# Altium footprint library SN74HC245PW.PcbLib: 1 footprints
Each footprint in its own frame and in the unit in brackets; x right, y up, seen from the top. Pads: shape width x height; smd on the part's side, far side on the other; paste and mask are expansions set on the pad; w line width, h text height; cw(c..) or ccw(c..) is an arc to the next point about the centre after c.
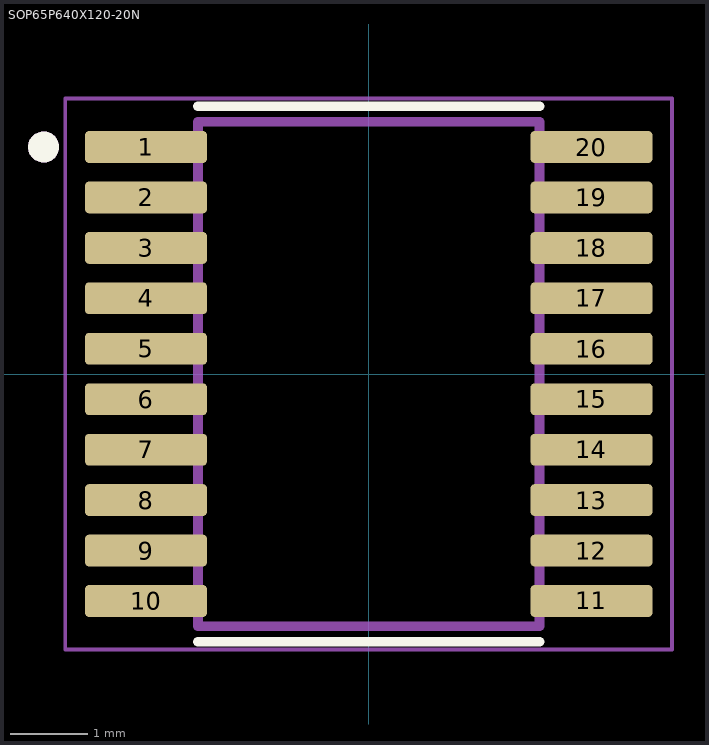
[diagram p0: the footprint, top view; thin cyan lines are the x and y axes]

## SOP65P640X120-20N [mm]
pads (20):
  rrect25% 1.57x0.41 smd: 1(-2.87,2.925) 2(-2.87,2.275) 3(-2.87,1.625) 4(-2.87,0.975) 5(-2.87,0.325) 6(-2.87,-0.325) 7(-2.87,-0.975) 8(-2.87,-1.625) 9(-2.87,-2.275) 10(-2.87,-2.925) 11(2.87,-2.925) 12(2.87,-2.275) 13(2.87,-1.625) 14(2.87,-0.975) 15(2.87,-0.325) 16(2.87,0.325) 17(2.87,0.975) 18(2.87,1.625) 19(2.87,2.275) 20(2.87,2.925)
Top Overlay:
  circle w0.2: c-4.19,2.925 r0.1
  lines w0.127: -2.2,-3.45 2.2,-3.45 ; -2.2,3.45 2.2,3.45
Mechanical 13:
  circle w0.2: c-4.19,2.925 r0.1
  lines w0.127: -2.2,-3.25 -2.2,3.25 2.2,3.25 2.2,-3.25 -2.2,-3.25
Mechanical 15:
  lines w0.05: -3.91,-3.55 -3.91,3.55 3.91,3.55 3.91,-3.55 -3.91,-3.55